# Altium footprint library 姿态记录仪2.PcbLib: 30 footprints (part 1 of 2)
Each footprint in its own frame and in the unit in brackets; x right, y up, seen from the top. Pads: shape width x height; smd on the part's side, far side on the other; paste and mask are expansions set on the pad; w line width, h text height; cw(c..) or ccw(c..) is an arc to the next point about the centre after c.
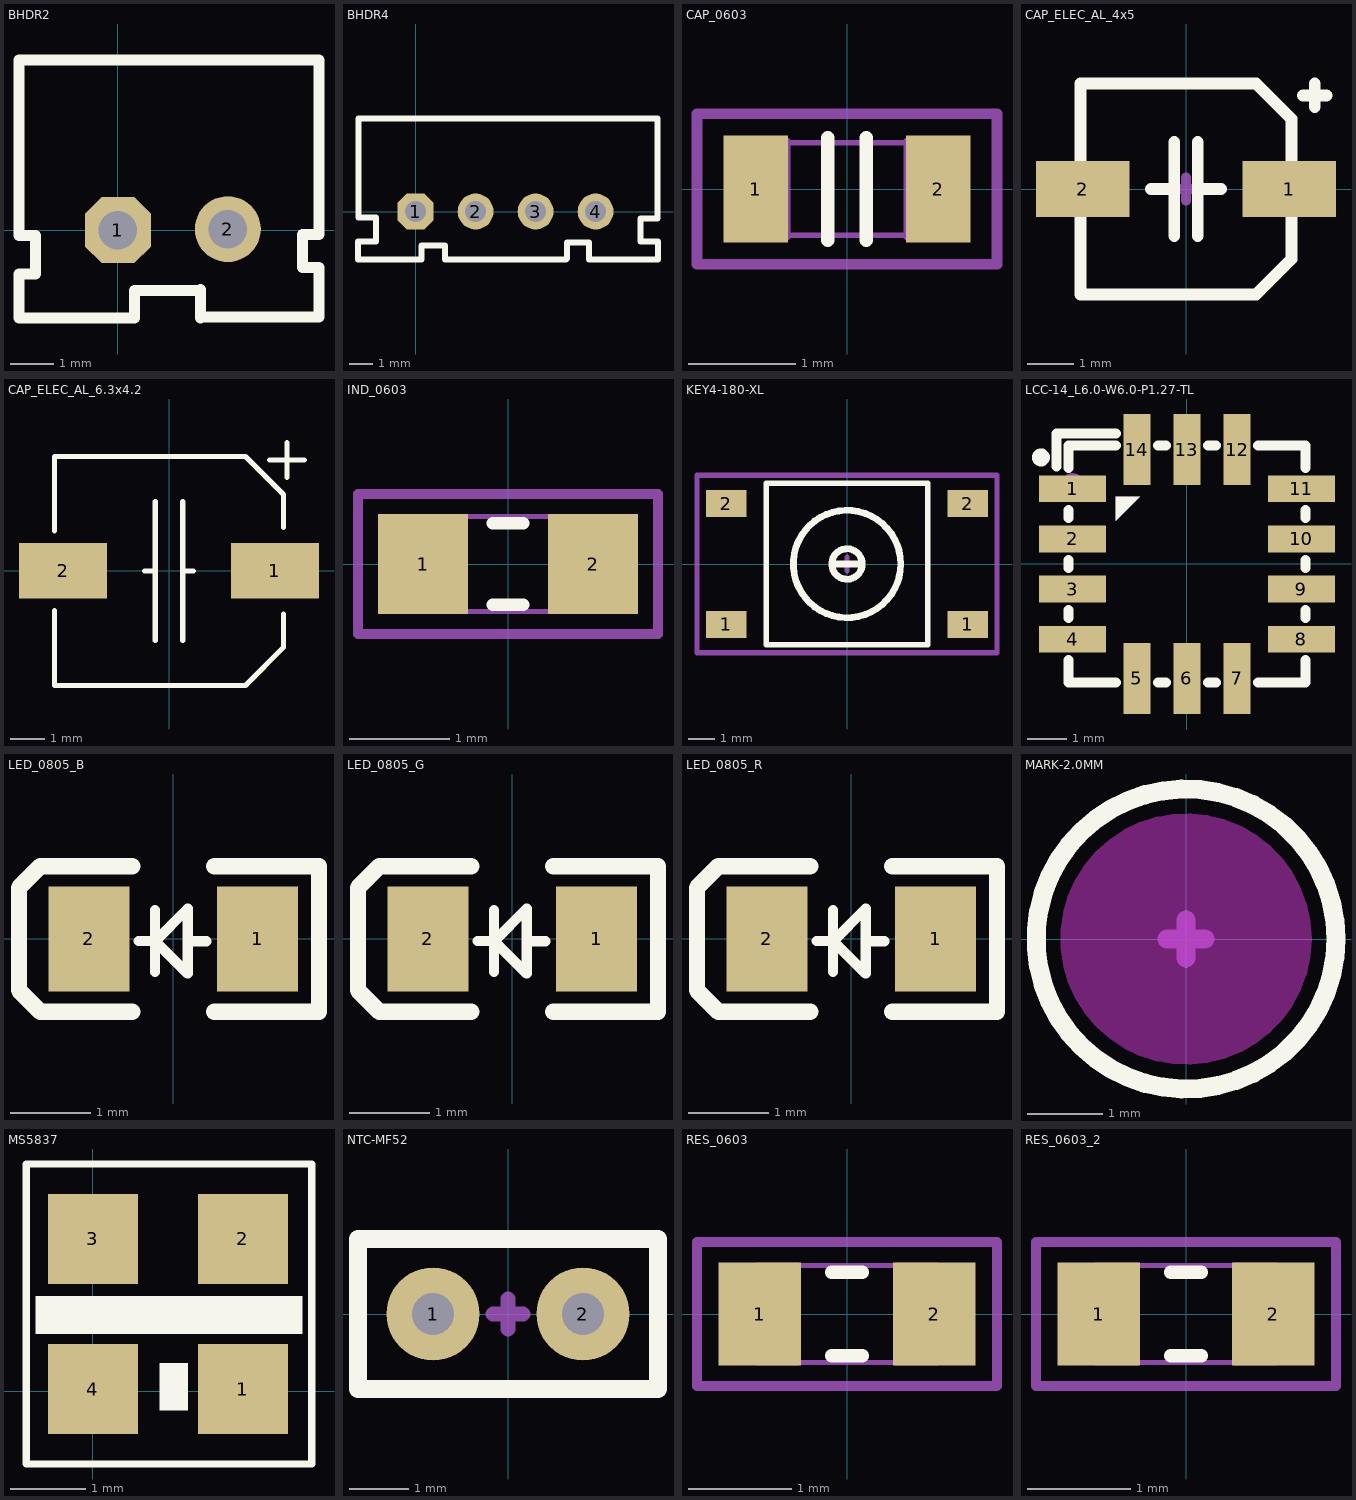
[diagram p0: the footprints below, top view; thin cyan lines are the x and y axes]

## BHDR2 [mil] "XH2.54"
height 31.5
pads (2):
  oct 60x60 hole 35: 1(0,0)
  round 60 hole 35: 2(100,1)
Top Overlay:
  lines w10: 75,-55 15,-55 15,-80 -90,-80 -90,-40 -75,-40 -75,-30 -75,-5 -90,-5 -90,155 183,155 183,-4 ; 75,-54 75,-80 76,-79 132,-79 ; 134,-79 95,-79 183,-79 183,-34 168,-34 168,-4 183,-4 ; 183,11 183,-4
3D body "Header-XH2.5-2.STEP": height 279.53, standoff -125.98, extent -97.64,-89 197.64,135.41

## BHDR4 [mil] "XH2.54"
height 31.5
pads (4):
  oct 60x60 hole 35: 1(0,0)
  round 60 hole 35: 2(100,0) 3(200,0) 4(300,0)
Top Overlay:
  lines w10: -95,-79 -96,-80 ; -95,103 -95,154 ; -95,134 -95,-10 -66,-10 -66,-50 -96,-50 -96,-80 ; -95,155 364,155 ; 200,-80 248,-80 ; 251,-80 49,-80 49,-57 10,-57 10,-80 -96,-80 ; 252,-78 252,-52 289,-52 289,-80 404,-80 404,-50 375,-50 375,-12 403,-12 403,155 294,155
3D body "Header-XH2.5-4.STEP": height 275.59, standoff -129.92, extent -97.06,-90 395.06,134.41

## CAP_0603 [mm] "Chip Capacitor, Body 1.6x0.8mm, 0603, IPC Medium Density"
height 0.8
pads (2):
  rect 0.6x1 smd: 1(-0.85,0) 2(0.85,0)
Top Overlay:
  lines w0.127: -0.178,-0.476 -0.178,0.476 ; 0.178,-0.476 0.178,0.476
Mechanical 13:
  lines w0.05: -0.55,-0.43 0.55,-0.43 ; -0.55,0.43 0.55,0.43 ; -0.85,-0.45 -0.55,-0.45 -0.55,0.45 -0.85,0.45 -0.85,-0.45 ; 0.55,-0.45 0.85,-0.45 0.85,0.45 0.55,0.45 0.55,-0.45
Mechanical 14:
  lines w0.1: -1.397,-0.7 1.397,-0.7 1.397,0.7 -1.397,0.7 -1.397,-0.7
3D body "CAP_0603.STEP": height 0.89, standoff -0.01, extent -0.85,-0.45 0.85,0.45

## CAP_ELEC_AL_4x5 [mm] "Capacitor, polarized, aluminum can; 4x5mm DxH"
height 5.7
pads (2):
  rect 2x1.2 smd: 1(2.204,0) 2(-2.204,0)
Top Overlay:
  lines w0.254: -0.75,0 -0.25,0 ; -0.25,-1 -0.25,1 ; 0.25,-1 0.25,1 ; 0.25,0 0.75,0 ; 2.5,2 3,2 ; 2.75,1.75 2.75,2.25 ; 1.5,-2.25 2.25,-1.5 ; 1.5,-2.25 2.25,-1.5 ; 1.5,-2.25 -2.25,-2.25 -2.25,2.25 1.5,2.25 ; 1.5,2.25 2.25,1.5 ; 1.5,2.25 2.25,1.5 ; 2.25,-1.5 2.25,1.5
Mechanical 15:
  lines w0.203: -0.254,0 0.254,0 ; 0,-0.254 0,0.254
3D body "CAP_ELEC_AL_4x5.STEP": height 5.43, standoff 0.01, extent -2.744,-2.235 2.795,2.265

## CAP_ELEC_AL_6.3x4.2 [mm] "Capacitor, polarized, aluminum can; 6.3x4.2mm DxH"
height 4.2
pads (2):
  rect 2.54x1.6 smd: 1(3.054,0) 2(-3.054,0)
Top Overlay:
  lines w0.152: -3.3,-1.15 -3.3,-3.3 2.2,-3.3 3.3,-2.2 3.3,-1.25 ; -3.3,1.15 -3.3,3.3 2.2,3.3 3.3,2.2 3.3,1.25 ; -0.7,0 -0.5,0 ; -0.4,-2 -0.4,2 ; 0.4,-2 0.4,2 ; 0.5,0 0.7,0 ; 2.9,3.2 3.4,3.2 3.9,3.2 ; 3.4,2.7 3.4,3.7
3D body "Cap, elec, 6.3x4.2.STEP": height 4.23, standoff 0, extent -3.3,-3.3 3.3,3.3

## IND_0603 [mm] "Chip bead, Body 1.6x0.8mm, 0603, IPC Medium Density"
height 0.8
pads (2):
  rect 0.9x1 smd: 1(-0.85,0) 2(0.85,0)
Top Overlay:
  lines w0.127: -0.152,-0.406 0.152,-0.406 ; -0.152,0.406 0.152,0.406
Mechanical 13:
  lines w0.05: -0.875,-0.475 -0.475,-0.475 -0.475,0.475 -0.875,0.475 -0.875,-0.475 ; -0.475,-0.474 0.475,-0.474 -0.475,-0.474 ; -0.475,0.474 0.475,0.474 -0.475,0.474 ; 0.475,-0.475 0.475,0.475 0.875,0.475 0.875,-0.475 0.475,-0.475
Mechanical 14:
  lines w0.1: -1.5,-0.7 -1.5,0.7 1.5,0.7 1.5,-0.7 -1.5,-0.7
3D body "INDC1608X80N.step": height 0.79, standoff -0.01, extent -0.8,-0.4 0.8,0.4

## KEY4-180-XL [mm] "6*6*5mm"
pads (4):
  rect 1.524x1 smd: 1(-4.5,-2.25) 1(4.5,-2.25) 2(-4.5,2.25) 2(4.5,2.25)
Top Overlay:
  circle w0.254: c0,0 r2
  circle w0.254: c0,0 r0.568
  lines w0.203: -3,-3 3,-3 3,3 -3,3 -3,-3
  lines w0.254: -0.508,0 0.508,0
Mechanical 15:
  lines w0.203: -0.254,0 0.254,0 ; 0,-0.254 0,0.254 ; -5.588,-3.302 5.588,-3.302 5.588,3.302 -5.588,3.302 -5.588,-3.302
3D body "KEY4-SMD.STEP": height 4.3, standoff 0, extent -4.6,-3 4.6,3

## LCC-14_L6.0-W6.0-P1.27-TL [mm]
pads (14):
  rect 1.7x0.68 smd: 1(-2.9,1.905) 2(-2.9,0.635) 3(-2.9,-0.635) 4(-2.9,-1.905) 8(2.9,-1.905) 9(2.9,-0.635) 10(2.9,0.635) 11(2.9,1.905)
  rect 0.68x1.8 smd: 5(-1.27,-2.9) 6(0,-2.9) 7(1.27,-2.9) 12(1.27,2.9) 13(0,2.9) 14(-1.27,2.9)
Top Overlay:
  circle w0.254: c-3.7,2.7 r0.1
  region: -1.8,1.7 -1.8,1.3 -1.8,1.1 -1.2,1.7
  lines w0.254: -3.3,2.476 -3.3,3.3 -1.8,3.3 ; -3,-2.436 -3,-3 -1.801,-3 ; -3,-1.374 -3,-1.166 ; -3,-0.104 -3,0.104 ; -3,1.166 -3,1.374 ; -3,2.436 -3,3 -1.801,3 ; -0.739,-3 -0.531,-3 ; -0.739,3 -0.531,3 ; 0.531,-3 0.739,-3 ; 0.531,3 0.739,3 ; 1.801,-3 3,-3 3,-2.436 ; 1.801,3 3,3 3,2.436 ; 3,-1.374 3,-1.166 ; 3,-0.104 3,0.104 ; 3,1.166 3,1.374
Mechanical 15:
  circle w0.3: c-2.9,2 r0.15
  region: -1.8,1.7 -1.8,1.3 -1.8,1.1 -1.2,1.7

## LED_0805_B [mm]
pads (2):
  rect 1x1.3 smd: 1(1.042,0) 2(-1.044,0)
Top Overlay:
  lines w0.127: -0.43,-0.026 -0.227,-0.028 ; -0.227,-0.409 -0.227,0.353 ; 0.207,-0.028 0.408,-0.028 ; -0.225,-0.026 0.177,-0.427 0.177,0.376 -0.225,-0.026
  lines w0.203: -0.509,-0.9 -1.64,-0.9 -1.905,-0.635 -1.905,0.635 -1.64,0.9 -0.509,0.9 ; 0.507,-0.9 1.799,-0.9 1.799,0.9 0.507,0.9
3D body "LED_0805_B.STEP": height 1.1, standoff 0, extent -1,-0.625 1,0.625

## LED_0805_G [mm]
pads (2):
  rect 1x1.3 smd: 1(1.042,0) 2(-1.044,0)
Top Overlay:
  lines w0.127: -0.43,-0.026 -0.227,-0.028 ; -0.227,-0.409 -0.227,0.353 ; 0.207,-0.028 0.408,-0.028 ; -0.225,-0.026 0.177,0.376 0.177,-0.427 -0.225,-0.026
  lines w0.203: -0.509,-0.9 -1.64,-0.9 -1.905,-0.635 -1.905,0.635 -1.64,0.9 -0.509,0.9 ; 0.507,-0.9 1.799,-0.9 1.799,0.9 0.507,0.9
3D body "LED_0805_G.STEP": height 1.1, standoff 0, extent -1,-0.625 1,0.625

## LED_0805_R [mm]
pads (2):
  rect 1x1.3 smd: 1(1.042,0) 2(-1.044,0)
Top Overlay:
  lines w0.127: -0.43,-0.026 -0.227,-0.028 ; -0.227,-0.409 -0.227,0.353 ; 0.207,-0.028 0.408,-0.028 ; -0.225,-0.026 0.177,-0.427 0.177,0.376 -0.225,-0.026
  lines w0.203: -0.509,-0.9 -1.64,-0.9 -1.905,-0.635 -1.905,0.635 -1.64,0.9 -0.509,0.9 ; 0.507,-0.9 1.799,-0.9 1.799,0.9 0.507,0.9
3D body "LED_0805_R.STEP": height 1.1, standoff 0, extent -1,-0.625 1,0.625

## MARK-2.0MM [mm] "2.1MM 5MM"
Top Overlay:
  circle w0.254: c0,0 r2
Keep-Out Layer:
  board cut-out: -1.55,0 -1.55,-0.153 -1.49,-0.452 -1.374,-0.734 -1.204,-0.988 -0.988,-1.204 -0.734,-1.374 -0.452,-1.49 -0.153,-1.55 0,-1.55 0.153,-1.55 0.452,-1.49 0.734,-1.374 0.988,-1.204 1.204,-0.988 1.374,-0.734 1.49,-0.452 1.55,-0.153 1.55,0 1.55,0.153 1.49,0.452 1.374,0.734 1.204,0.988 0.988,1.204 0.734,1.374 0.452,1.49 0.153,1.55 0,1.55 -0.153,1.55 -0.452,1.49 -0.734,1.374 -0.988,1.204 -1.204,0.988 -1.374,0.734 -1.49,0.452 -1.55,0.153
Keep-Out Layer:
  circle w0.254: c0,0 r1.55
Mechanical 15:
  lines w0.254: -0.254,0 0.254,0 ; 0,-0.254 0,0.254

## MS5837 [mm]
pads (4):
  rect 1.2x1.2 smd: 1(2,0.032) 2(2,2.032) 3(0,2.032) 4(0,0.032)
Top Overlay:
  rectangle: 0.889,-0.254 1.27,0.381
  rectangle: -0.762,0.762 2.794,1.27
  lines w0.1: 0.5,3.032 2.921,3.032 2.921,-0.968 -0.889,-0.968 -0.889,3.032 1.5,3.032
3D body "MS5837.STEP": height 2.75, standoff 0, extent -0.634,-0.634 2.666,2.666

## NTC-MF52 [mil] "MF52 10K 1%"
pads (2):
  round 62 hole 28: 1(-50,0) 2(50,0)
Top Overlay:
  lines w12: -100,-50 -100,50 100,50 100,-50 -100,-50
Mechanical 15:
  lines w10: -10,0 10,0 ; 0,-10 0,10

## RES_0603 [mm]
height 0.8
pads (2):
  rect 0.8x1 smd: 1(-0.85,0) 2(0.85,0)
Top Overlay:
  lines w0.127: -0.152,-0.406 0.152,-0.406 ; -0.152,0.406 0.152,0.406
Mechanical 13:
  lines w0.05: -0.875,-0.475 -0.475,-0.475 -0.475,0.475 -0.875,0.475 -0.875,-0.475 ; -0.475,-0.474 0.475,-0.474 -0.475,-0.474 ; -0.475,0.474 0.475,0.474 -0.475,0.474 ; 0.475,-0.475 0.475,0.475 0.875,0.475 0.875,-0.475 0.475,-0.475
Mechanical 14:
  lines w0.1: -1.46,-0.7 1.46,-0.7 1.46,0.7 -1.46,0.7 -1.46,-0.7
3D body "RES 0603 (1608 metric).STEP": height 0.54, standoff -0.01, extent -0.875,-0.475 0.875,0.475

## RES_0603_2 [mm]
pads (2):
  rect 0.8x1 smd: 1(-0.85,0) 2(0.85,0)
Top Overlay:
  lines w0.127: -0.152,-0.406 0.152,-0.406 ; -0.152,0.406 0.152,0.406
Mechanical 13:
  lines w0.05: -0.875,-0.475 -0.875,0.475 -0.475,0.475 -0.475,-0.475 -0.875,-0.475 ; -0.475,-0.474 0.475,-0.474 -0.475,-0.474 ; -0.475,0.474 0.475,0.474 -0.475,0.474 ; 0.475,-0.475 0.875,-0.475 0.875,0.475 0.475,0.475 0.475,-0.475
Mechanical 14:
  lines w0.1: -1.46,-0.7 -1.46,0.7 1.46,0.7 1.46,-0.7 -1.46,-0.7
3D body "RES 0603 (1608 metric).STEP": height 0.54, standoff -0.01, extent -0.875,-0.475 0.875,0.475